# EAGLE library part SF2D-DC12V (library Relay)
RELAY SAFETY 4PST 6A 12V Manufacturer's datasheet <file:///C:/Users/cam/Downloads/mech_eng_sfw.pdf>
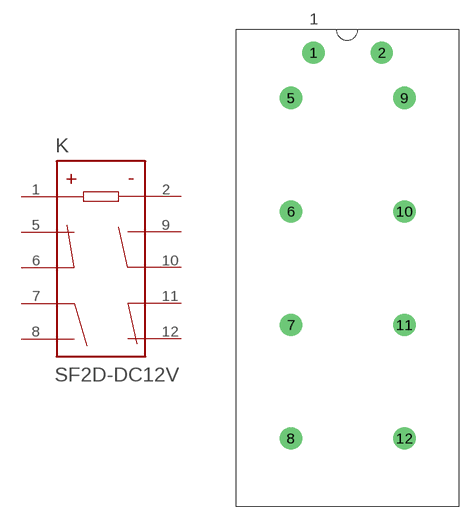
[diagram p3: symbol with the pads of SF2D-DC12V; footprint SF2D-DC12V]

Designator prefix K

## SF2D-DC12V (CREATED_BY: PCBLayout.com; DIGIKEY_PN: 255-1745-ND; MANUFACTURER: Panasonic Electric Works; MPN: SF2D-DC12V)  [SF2D-DC12V]
1  1  pas
2  2  pas
5  5  pas
6  6  pas
7  7  pas
8  8  pas
9  9  pas
10  10  pas
11  11  pas
12  12  pas

## Footprint SF2D-DC12V (pad centres in mm)
drill 1.4 pad 2.5: 1 -3.81,21.59; 2 3.81,21.59; 5 -6.35,16.51; 6 -6.35,3.81; 7 -6.35,-8.89; 8 -6.35,-21.59; 9 6.35,16.51; 10 6.35,3.81; 11 6.35,-8.89; 12 6.35,-21.59